# Altium footprint library Alpha_pcb_lib.PcbLib: 2 footprints
Each footprint in its own frame and in the unit in brackets; x right, y up, seen from the top. Pads: shape width x height; smd on the part's side, far side on the other; paste and mask are expansions set on the pad; w line width, h text height; cw(c..) or ccw(c..) is an arc to the next point about the centre after c.
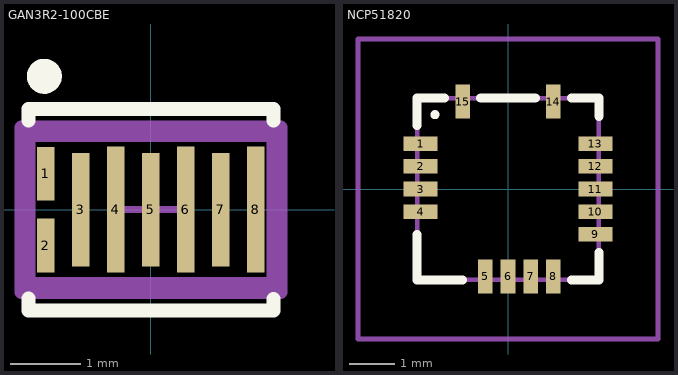
[diagram p0: the footprints below, top view; thin cyan lines are the x and y axes]

## GAN3R2-100CBE [mm]
height 5.33
pads (8):
  rect 0.25x0.77 smd paste-1000 mask+0: 1(-1.5,0.512) 2(-1.5,-0.513)
  rect 0.25x1.62 smd paste-1000 mask+0: 3(-1,0) 5(0,0) 7(1,0)
  rect 0.25x1.8 smd paste-1000 mask+0: 4(-0.5,0) 6(0.5,0) 8(1.5,0)
Top Overlay:
  circle w0.25: c-1.524,1.905 r0.125
  lines w0.2: -1.75,-1.272 -1.75,-1.44 1.75,-1.44 1.75,-1.275 ; -1.75,1.272 -1.75,1.44 1.75,1.44 1.75,1.275
Top Paste:
  rectangle: -1.6,0.152 -1.4,0.873
  rectangle: -1.6,-0.873 -1.4,-0.152
  rectangle: -1.1,-0.785 -0.9,0.785
  rectangle: -0.1,-0.785 0.1,0.785
  rectangle: 0.9,-0.785 1.1,0.785
  rectangle: -0.6,-0.875 -0.4,0.875
  rectangle: 0.4,-0.875 0.6,0.875
  rectangle: 1.4,-0.875 1.6,0.875
Top 3D Body:
  lines w0.2: -1.75,-1.065 1.75,-1.065 1.75,1.065 -1.75,1.065 -1.75,-1.065
Top Courtyard:
  lines w0.2: -1.85,-1.175 1.85,-1.175 1.85,1.175 -1.85,1.175 -1.85,-1.175
Top Assembly:
  lines w0.2: -1.85,-1.175 1.85,-1.175 1.85,1.175 -1.85,1.175 -1.85,-1.175
Top Component Center:
  lines w0.1: -0.5,0 0.5,0 ; 0,-0.5 0,0.5
3D body "Trans_Nexperia_GAN3R2-100CBEAZ_eec.STEP": height 0.47, standoff 0, extent -1.75,-1.065 1.75,1.065

## NCP51820 [mm]
pads (15):
  rect 0.75x0.32 smd: 1(-1.925,1) 2(-1.925,0.5) 3(-1.925,0) 4(-1.925,-0.5) 9(1.925,-1) 10(1.925,-0.5) 11(1.925,0) 12(1.925,0.5) 13(1.925,1)
  rect 0.32x0.75 smd: 5(-0.5,-1.925) 6(0,-1.925) 7(0.5,-1.925) 8(1,-1.925) 14(1,1.925) 15(-1,1.925)
Top Overlay:
  lines w0.1: -1.657,1.635 cw(c-1.607,1.635) -1.557,1.635 cw(c-1.607,1.635) -1.657,1.635
  lines w0.2: -2,-1 -2,-2 -1,-2 ; -2,1.4 -2,2 -1.6,2 -1.4,2 ; -0.6,2 0.6,2 ; 1.4,-2 2,-2 2,-1.4 ; 1.4,2 2,2 2,1.6
Mechanical 13:
  lines w0.1: -2,-2 -2,2 2,2 2,-2 -2,-2
Mechanical 15:
  lines w0.1: -3.3,-3.3 -3.3,3.3 3.3,3.3 3.3,-3.3 -3.3,-3.3
3D body "NCP51820.stp": height 0.89, standoff 0, extent -1.839,-2.139 2.199,1.899